# EAGLE library part 1-2199298-1 (library 1-2199298-1)
TE CONNECTIVITY - 1-2199298-1 - IC SOCKET, DIP, 6POS, TH Source: Datasheet <https://www.te.com/commerce/DocumentDelivery/DDEController?Action=showdoc&DocId=Customer Drawing2199298ApdfEnglishENG_CD_2199298_A_baseFilename.pdf1-2199298-1>
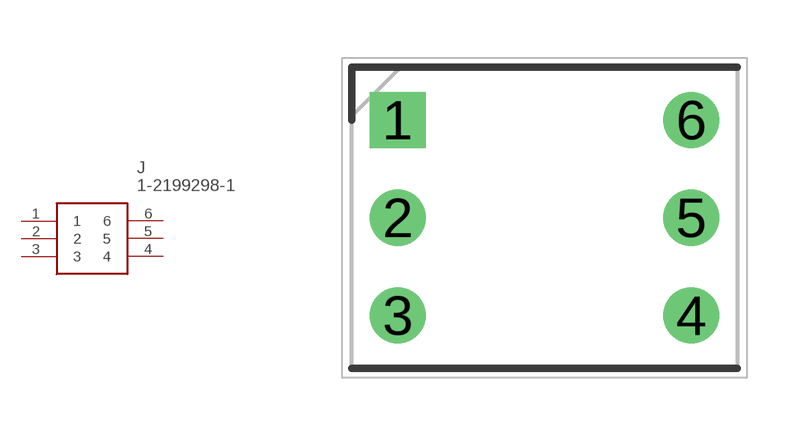
[diagram p0: symbol with the pads of DIPS762W70P254L762H510Q6N; footprint DIPS762W70P254L762H510Q6N]

Designator prefix J

## 1-2199298-1 (Description: TE CONNECTIVITY - 1-2199298-1 - IC SOCKET, DIP, 6POS, TH; Height: 5.1mm; Manufacturer_Name: TE Connectivity; Manufacturer_Part_Number: 1-2199298-1; Mouser_Part_Number: 571-1-2199298-1; Mouser_Price-Stock: https://www.mouser.co.uk/ProductDetail/TE-Connectivity/1-2199298-1?qs=fK8dlpkaUMsQ%252BTzExsKLsw%3D%3D)  [DIPS762W70P254L762H510Q6N]
1  1
2  2
3  3
4  4
5  5
6  6

## Footprint DIPS762W70P254L762H510Q6N (pad centres in mm)
1-2199298-1-11
drill 0.95 pad 1.425 square: 1 0,0
drill 0.95 pad 1.425: 2 0,-2.54; 3 0,-5.08; 4 7.62,-5.08; 5 7.62,-2.54; 6 7.62,0